# EAGLE library part HEADER-2X6P (library S_Connector )
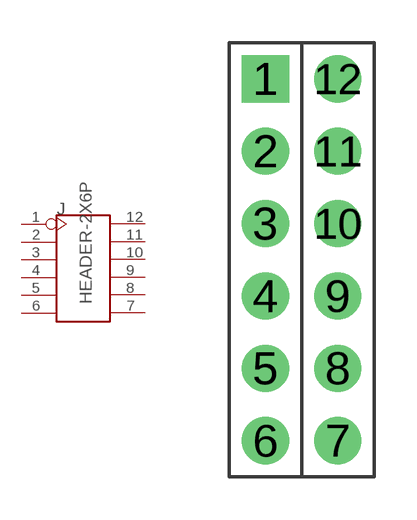
[diagram p23: symbol with the pads of 2X6P-2.54; footprint 2X6P-2.54]

Designator prefix J

## HEADER-2X6P-2.54  [2X6P-2.54]
1  1
2  2
3  3
4  4
5  5
6  6
7  7
8  8
9  9
10  10
11  11
12  12

## Footprint 2X6P-2.54 (pad centres in mm)
drill 0.889 pad 1.651 square: 1 -1.27,6.35
drill 0.889 pad 1.651: 2 -1.27,3.81; 3 -1.27,1.27; 4 -1.27,-1.27; 5 -1.27,-3.81; 6 -1.27,-6.35; 7 1.27,-6.35; 8 1.27,-3.81; 9 1.27,-1.27; 10 1.27,1.27; 11 1.27,3.81; 12 1.27,6.35